# EAGLE library part TPS5435X (library xess)
Switching Voltage Regulator
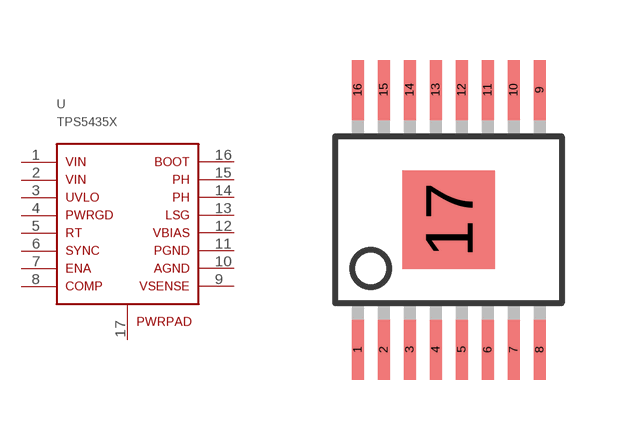
[diagram p40: symbol with the pads of TSSOP16-PWRPAD; footprint TSSOP16-PWRPAD]

Designator prefix U

## TPS5435XPWR-PAD  [TSSOP16-PWRPAD]
1  1  in
2  2  in
3  3  pas
4  4  out
5  5  pas
6  6
7  7  pas
8  8  nc
9  9  in
10  10  in
11  11  in
12  12  out
13  13  out
14  14
15  15
16  16  in
17  17  in

## Footprint TSSOP16-PWRPAD (pad centres in mm)
smd 0.3 x 1.5: 1 0,0; 2 0.65,0; 3 1.3,0; 4 1.95,0; 5 2.6,0; 6 3.25,0; 7 3.9,0; 8 4.55,0; 9 4.55,6.5; 10 3.9,6.5; 11 3.25,6.5; 12 2.6,6.5; 13 1.95,6.5; 14 1.3,6.5; 15 0.65,6.5; 16 0,6.5
smd 2.31 x 2.46: 17 2.275,3.25